# EAGLE library part ATTINY84-20MU (library 32bits)
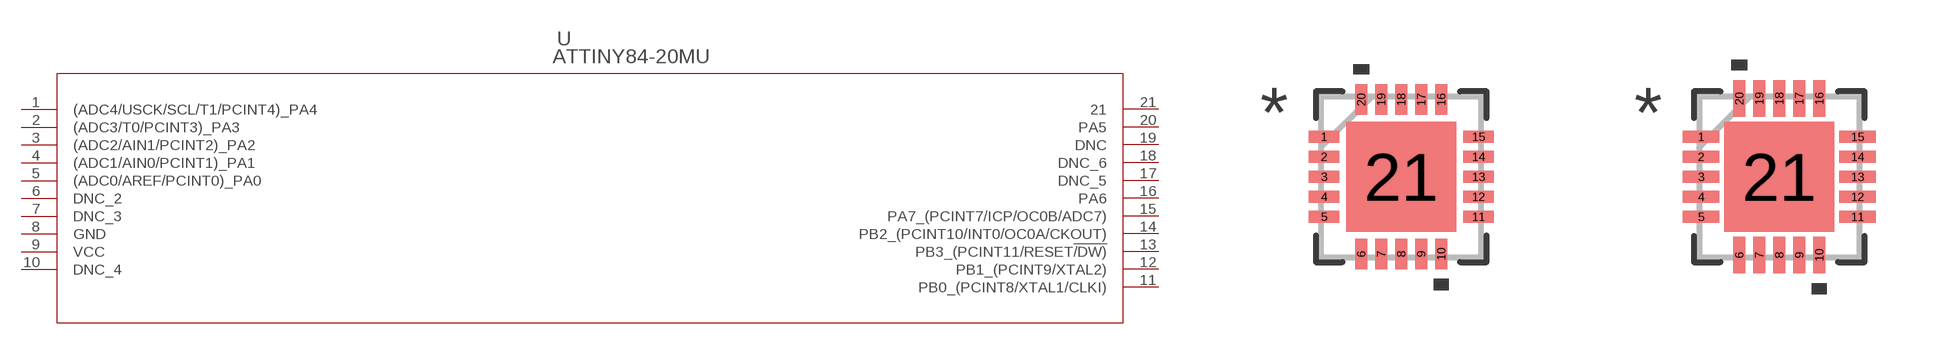
[diagram p11: symbol with the pads of 20M1; footprints 20M1, 20M1-M]

Designator prefix U

## ATTINY84-20MU (MANUFACTURER_PART_NUMBER: ATTINY8420MU; VENDOR: Atmel)  [20M1]
1  (ADC4/USCK/SCL/T1/PCINT4)_PA4
2  (ADC3/T0/PCINT3)_PA3
3  (ADC2/AIN1/PCINT2)_PA2
4  (ADC1/AIN0/PCINT1)_PA1
5  (ADC0/AREF/PCINT0)_PA0
6  DNC_2  pas
7  DNC_3  pas
8  GND  pwr
9  VCC  pwr
10  DNC_4  pas
11  PB0_(PCINT8/XTAL1/CLKI)
12  PB1_(PCINT9/XTAL2)
13  PB3_(PCINT11/RESET!/DW)
14  PB2_(PCINT10/INT0/OC0A/CKOUT)
15  PA7_(PCINT7/ICP/OC0B/ADC7)
16  PA6
17  DNC_5  pas
18  DNC_6  pas
19  DNC  pas
20  PA5
21  21  pas

## ATTINY84-20MU20M1-M (MANUFACTURER_PART_NUMBER: ATTINY8420MU; VENDOR: Atmel)  [20M1-M]
Pads as for 20M1

## ATTINY84-20MU20M1-L (MANUFACTURER_PART_NUMBER: ATTINY8420MU; VENDOR: Atmel)  [20M1-L]
Pads as for 20M1

## Footprint 20M1 (pad centres in mm)
smd 0.762 x 0.305: 1 -1.93,1; 2 -1.93,0.5; 3 -1.93,0; 4 -1.93,-0.5; 5 -1.93,-1; 11 1.93,-1; 12 1.93,-0.5; 13 1.93,0; 14 1.93,0.5; 15 1.93,1
smd 0.305 x 0.762: 6 -1,-1.93; 7 -0.5,-1.93; 8 0,-1.93; 9 0.5,-1.93; 10 1,-1.93; 16 1,1.93; 17 0.5,1.93; 18 0,1.93; 19 -0.5,1.93; 20 -1,1.93
smd 2.743 x 2.743: 21 0,0

## Footprint 20M1-M (pad centres in mm)
smd 0.914 x 0.305: 1 -1.956,1; 2 -1.956,0.5; 3 -1.956,0; 4 -1.956,-0.5; 5 -1.956,-1; 11 1.956,-1; 12 1.956,-0.5; 13 1.956,0; 14 1.956,0.5; 15 1.956,1
smd 0.305 x 0.914: 6 -1,-1.956; 7 -0.5,-1.956; 8 0,-1.956; 9 0.5,-1.956; 10 1,-1.956; 16 1,1.956; 17 0.5,1.956; 18 0,1.956; 19 -0.5,1.956; 20 -1,1.956
smd 2.743 x 2.743: 21 0,0

## Footprint 20M1-L (pad centres in mm)
smd 0.711 x 0.305: 1 -1.854,1; 2 -1.854,0.5; 3 -1.854,0; 4 -1.854,-0.5; 5 -1.854,-1; 11 1.854,-1; 12 1.854,-0.5; 13 1.854,0; 14 1.854,0.5; 15 1.854,1
smd 0.305 x 0.711: 6 -1,-1.854; 7 -0.5,-1.854; 8 0,-1.854; 9 0.5,-1.854; 10 1,-1.854; 16 1,1.854; 17 0.5,1.854; 18 0,1.854; 19 -0.5,1.854; 20 -1,1.854
smd 2.743 x 2.743: 21 0,0